# Altium footprint library SMD.PcbLib: 14 footprints
Each footprint in its own frame and in the unit in brackets; x right, y up, seen from the top. Pads: shape width x height; smd on the part's side, far side on the other; paste and mask are expansions set on the pad; w line width, h text height; cw(c..) or ccw(c..) is an arc to the next point about the centre after c.
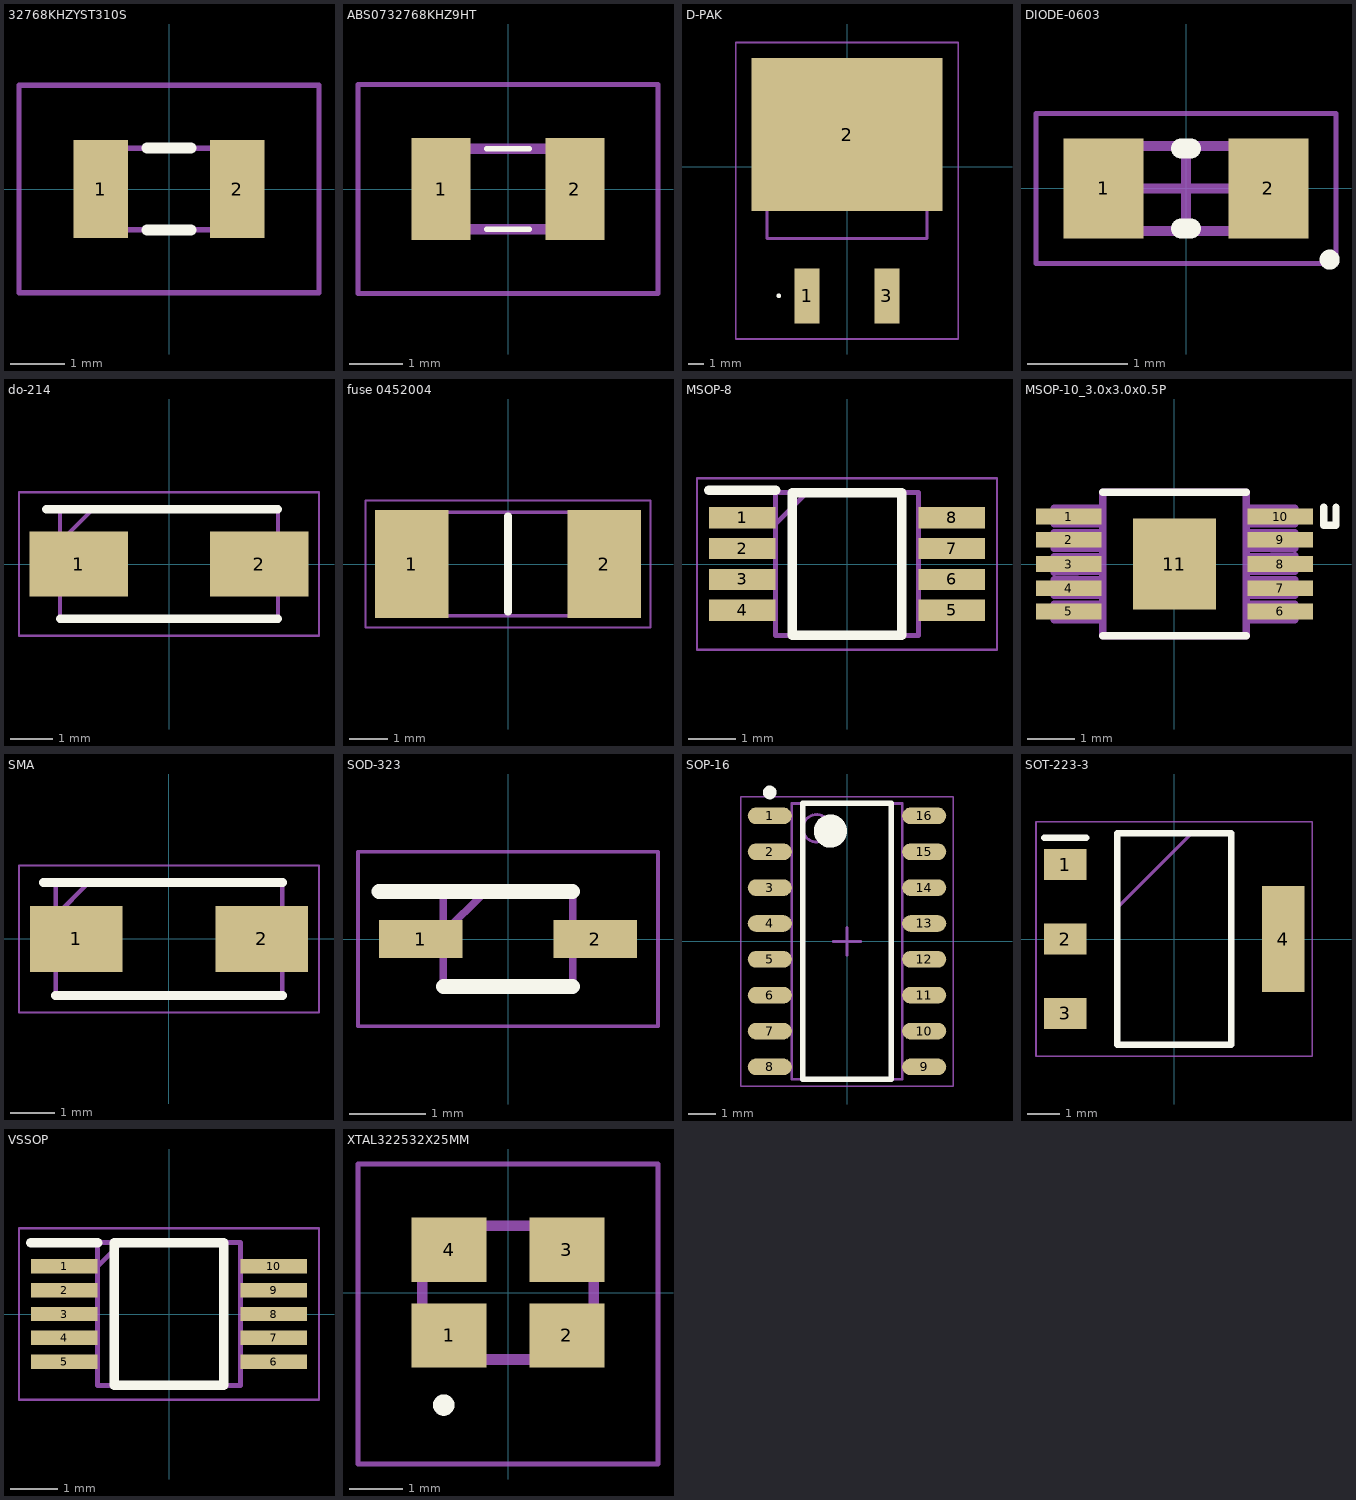
[diagram p0: the footprints below, top view; thin cyan lines are the x and y axes]

## 32768KHZYST310S [mm]
pads (2):
  rect 1x1.8 smd: 1(-1.25,0) 2(1.25,0)
Top Overlay:
  lines w0.2: -0.4,-0.75 0.4,-0.75 ; -0.4,0.75 0.4,0.75
Mechanical 13:
  lines w0.1: -1.6,-0.75 1.6,-0.75 1.6,0.75 -1.6,0.75 -1.6,-0.75
Mechanical 15:
  lines w0.1: -2.75,-1.9 2.75,-1.9 2.75,1.9 -2.75,1.9 -2.75,-1.9

## ABS0732768KHZ9HT [mm]
pads (2):
  rect 1.1x1.9 smd: 1(-1.25,0) 2(1.25,0)
Top Overlay:
  lines w0.1: -0.4,-0.75 0.4,-0.75 ; -0.4,0.75 0.4,0.75
Mechanical 13:
  lines w0.2: -1.6,-0.75 1.6,-0.75 1.6,0.75 -1.6,0.75 -1.6,-0.75
Mechanical 15:
  lines w0.1: -2.8,-1.95 2.8,-1.95 2.8,1.95 -2.8,1.95 -2.8,-1.95
3D body "ABS07-32.768KHZ-9-H-T.stp": height 0.9, standoff 0, extent -1.6,-0.75 1.6,0.75

## D-PAK [mm]
pads (3):
  rect 1.6x3.5 smd: 1(-2.54,-8.24) 3(2.54,-8.24)
  rect 12.2x9.75 smd: 2(0,2.035)
Top Overlay:
  lines w0.2: -4.4,-8.24 ccw(c-4.35,-8.24) -4.3,-8.24 ; -4.4,-8.24 cw(c-4.35,-8.24) -4.3,-8.24 ; -4.4,-8.24 ccw(c-4.35,-8.24) -4.3,-8.24
Mechanical 13:
  lines w0.2: -5.1,-4.575 -5.1,4.575 5.1,4.575 5.1,-4.575 -5.1,-4.575
Mechanical 15:
  lines w0.1: -7.1,-10.99 -7.1,7.91 7.1,7.91 7.1,-10.99 -7.1,-10.99
3D body "STB120N4LF6.stp": height 4.6, standoff -0.05, extent -5.194,-8.103 5.194,5.375

## DIODE-0603 [mm] "Chip Diode, 2-Leads, Body 1,60x0,85mm, IPC Medium Density"
height 0.6
pads (2):
  rect 0.8x1 smd: 1(-0.825,0) 2(0.825,0)
Top Overlay:
  circle w0.1: c1.437,-0.712 r0.05
  lines w0.2: -0.05,-0.4 0.05,-0.4 ; -0.05,0.4 0.05,0.4
Mechanical 13:
  lines w0.1: -0.8,-0.425 -0.8,0.425 0.8,0.425 0.8,-0.425 -0.8,-0.425
Mechanical 15:
  lines w0.05: -1.5,-0.75 -1.5,0.75 1.5,0.75 1.5,-0.75 -1.5,-0.75
  lines w0.1: -0.425,0 0.425,0 ; 0,-0.425 0,0.425
3D body "DIOC1608X06N.step": height 0.6, standoff 0, extent -0.8,-0.425 0.8,0.425

## do-214 [mm]
pads (2):
  rect 2.35x1.55 smd: 1(-2.15,0) 2(2.15,0)
Top Overlay:
  lines w0.2: -2.925,1.302 2.598,1.302 ; -2.598,-1.302 2.598,-1.302
Mechanical 13:
  lines w0.1: -2.598,0.528 -1.822,1.302 ; -2.598,-1.302 -2.598,1.302 2.598,1.302 2.598,-1.302 -2.598,-1.302
Mechanical 15:
  lines w0.05: -3.575,-1.71 -3.575,1.71 3.575,1.71 3.575,-1.71 -3.575,-1.71
3D body "B220A-13-F.stp": height 2.3, standoff 0, extent -2.598,-1.302 2.598,1.302

## fuse 0452004 [mm]
pads (2):
  rect 1.91x2.8 smd: 1(-2.5,0) 2(2.5,0)
Top Overlay:
  lines w0.2: 0,-1.245 0,1.245
Mechanical 13:
  lines w0.1: -3.05,-1.345 -3.05,1.345 3.05,1.345 3.05,-1.345 -3.05,-1.345
Mechanical 15:
  lines w0.05: -3.705,-1.65 -3.705,1.65 3.705,1.65 3.705,-1.65 -3.705,-1.65
3D body "0452004.MRL.stp": height 2.69, standoff 0, extent -3.05,-1.345 3.05,1.345

## MSOP-8 [mm]
pads (8):
  rect 1.4x0.45 smd: 1(-2.2,0.975) 2(-2.2,0.325) 3(-2.2,-0.325) 4(-2.2,-0.975) 5(2.2,-0.975) 6(2.2,-0.325) 7(2.2,0.325) 8(2.2,0.975)
Top Overlay:
  lines w0.2: -2.9,1.55 -1.5,1.55 ; -1.15,-1.5 -1.15,1.5 1.15,1.5 1.15,-1.5 -1.15,-1.5
Mechanical 13:
  lines w0.1: -1.5,0.85 -0.85,1.5 ; -1.5,-1.5 -1.5,1.5 1.5,1.5 1.5,-1.5 -1.5,-1.5
Mechanical 15:
  lines w0.05: -3.15,-1.8 -3.15,1.8 3.15,1.8 3.15,-1.8 -3.15,-1.8
3D body "DAC8531E_2K5.stp": height 1.1, standoff 0, extent -2.451,-1.499 2.451,1.499

## MSOP-10_3.0x3.0x0.5P [mil]
pads (11):
  rect 54x13 smd: 1(-87,39) 2(-87,20) 3(-87,0) 4(-87,-20) 5(-87,-39) 6(87,-39) 7(87,-20) 8(87,0) 9(87,20) 10(87,39)
  rect 68x75 smd: 11(0,0)
Top Overlay:
  lines w6: -59,-59 59,-59 ; -59,59 -12,59 12,59 59,59 ; 123,47 123,32 133,32 133,47
Mechanical 13:
  lines w6: -99,-46 -99,-33 -59,-33 -59,-46 -99,-46 ; -99,-26 -99,-13 -59,-13 -59,-26 -99,-26 ; -99,-7 -99,6 -59,6 -59,-6 -99,-7 ; -99,13 -99,26 -59,26 -59,13 -99,13 ; -99,33 -99,46 -59,46 -59,33 -99,33 ; -59,-59 59,-59 59,59 12,59 -12,59 -59,59 -59,-59 ; 59,-46 59,-33 99,-33 99,-46 59,-46 ; 59,-26 59,-13 99,-13 99,-26 59,-26 ; 59,-6 59,6 99,7 99,-6 59,-6 ; 59,13 59,26 99,26 99,13 59,13 ; 59,33 59,46 99,46 99,33 59,33
3D body "TPS54040DGQR.stp": height 37.95, standoff 0, extent -96.95,-59.06 96.95,59.06

## SMA [mm]
pads (2):
  rect 2.1x1.5 smd: 1(-2.1,0) 2(2.1,0)
Top Overlay:
  lines w0.2: -2.85,1.28 2.57,1.28 ; -2.57,-1.28 2.57,-1.28
Mechanical 13:
  lines w0.1: -2.57,0.53 -1.82,1.28 ; -2.57,-1.28 -2.57,1.28 2.57,1.28 2.57,-1.28 -2.57,-1.28
Mechanical 15:
  lines w0.05: -3.4,-1.665 -3.4,1.665 3.4,1.665 3.4,-1.665 -3.4,-1.665
3D body "SMAJ58CA.stp": height 2.5, standoff 0, extent -2.57,-1.28 2.57,1.28

## SOD-323 [mm]
pads (2):
  rect 1.1x0.5 smd: 1(-1.15,0) 2(1.15,0)
Top Overlay:
  lines w0.2: -1.7,0.625 0.85,0.625 ; -0.85,-0.625 0.85,-0.625
Mechanical 13:
  lines w0.1: -0.85,0.075 -0.3,0.625 ; -0.85,-0.625 0.85,-0.625 0.85,0.625 -0.85,0.625 -0.85,-0.625
Mechanical 15:
  lines w0.05: -1.975,-1.15 1.975,-1.15 1.975,1.15 -1.975,1.15 -1.975,-1.15
3D body "BAT60B.stp": height 1.15, standoff 0, extent -1.25,-0.625 1.25,0.625

## SOP-16 [mm] "SOP, 16-Leads, Body 9,80x3,85mm, Pitch 1,30mm, IPC Medium Density"
height 1.7
pads (16):
  oval 1.6x0.6 smd: 1(-2.8,4.55) 2(-2.8,3.25) 3(-2.8,1.95) 4(-2.8,0.65) 5(-2.8,-0.65) 6(-2.8,-1.95) 7(-2.8,-3.25) 8(-2.8,-4.55) 9(2.8,-4.55) 10(2.8,-3.25) 11(2.8,-1.95) 12(2.8,-0.65) 13(2.8,0.65) 14(2.8,1.95) 15(2.8,3.25) 16(2.8,4.55)
Top Overlay:
  circle w0.25: c-2.8,5.4 r0.125
  circle w0.6: c-0.6,4 r0.3
  lines w0.2: -1.6,-5 -1.6,5 1.6,5 1.6,-5 -1.6,-5
Mechanical 13:
  circle w0.1: c-1.1,4.1 r0.5
  lines w0.1: -2,-5 -2,5 2,5 2,-5 -2,-5
Mechanical 15:
  lines w0.05: -3.85,-5.25 -3.85,5.25 3.85,5.25 3.85,-5.25 -3.85,-5.25
  lines w0.1: -0.5,0 0.5,0 ; 0,-0.5 0,0.5
3D body "SOP130P600X170-16N.step": height 1.7, standoff 0, extent -3,-5 3,5

## SOT-223-3 [mm]
pads (4):
  rect 1.3x0.95 smd: 1(-3.35,2.29) 2(-3.35,0) 3(-3.35,-2.29)
  rect 1.3x3.25 smd: 4(3.35,0)
Top Overlay:
  lines w0.2: -4,3.115 -2.7,3.115 ; -1.752,-3.252 1.752,-3.252 1.752,3.252 -1.752,3.252 -1.752,-3.252
Mechanical 13:
  lines w0.1: -1.752,0.962 0.538,3.252 ; -1.752,-3.252 1.752,-3.252 1.752,3.252 -1.752,3.252 -1.752,-3.252
Mechanical 15:
  lines w0.05: -4.25,-3.605 4.25,-3.605 4.25,3.605 -4.25,3.605 -4.25,-3.605
3D body "AMS1117-1.5.stp": height 1.8, standoff 0, extent -3.5,-3.253 3.5,3.253

## VSSOP [mm]
pads (10):
  rect 1.4x0.3 smd: 1(-2.2,1) 2(-2.2,0.5) 3(-2.2,0) 4(-2.2,-0.5) 5(-2.2,-1) 6(2.2,-1) 7(2.2,-0.5) 8(2.2,0) 9(2.2,0.5) 10(2.2,1)
Top Overlay:
  lines w0.2: -2.9,1.5 -1.5,1.5 ; -1.15,-1.5 1.15,-1.5 1.15,1.5 -1.15,1.5 -1.15,-1.5
Mechanical 13:
  lines w0.1: -1.5,1 -1,1.5 ; -1.5,-1.5 1.5,-1.5 1.5,1.5 -1.5,1.5 -1.5,-1.5
Mechanical 15:
  lines w0.05: -3.15,-1.8 3.15,-1.8 3.15,1.8 -3.15,1.8 -3.15,-1.8
3D body "LM5069MM-2_NOPB.stp": height 1.1, standoff 0, extent -2.463,-1.5 2.463,1.5

## XTAL322532X25MM [mm]
pads (4):
  rect 1.4x1.2 smd: 1(-1.1,-0.8) 2(1.1,-0.8) 3(1.1,0.8) 4(-1.1,0.8)
Top Overlay:
  lines w0.2: -1.2,-2.2 cw(c-1.2,-2.1) -1.2,-2 cw(c-1.2,-2.1) -1.2,-2.2
Mechanical 13:
  lines w0.2: -1.6,-1.25 1.6,-1.25 1.6,1.25 -1.6,1.25 -1.6,-1.25
Mechanical 15:
  lines w0.1: -2.8,-3.2 2.8,-3.2 2.8,2.4 -2.8,2.4 -2.8,-3.2
3D body "FA-238_27.1200MB-C.stp": height 0.8, standoff 0, extent -1.68,-1.28 1.68,1.28